# Altium footprint library PcbLib1.PcbLib: 58 footprints (part 3 of 4)
Each footprint in its own frame and in the unit in brackets; x right, y up, seen from the top. Pads: shape width x height; smd on the part's side, far side on the other; paste and mask are expansions set on the pad; w line width, h text height; cw(c..) or ccw(c..) is an arc to the next point about the centre after c.
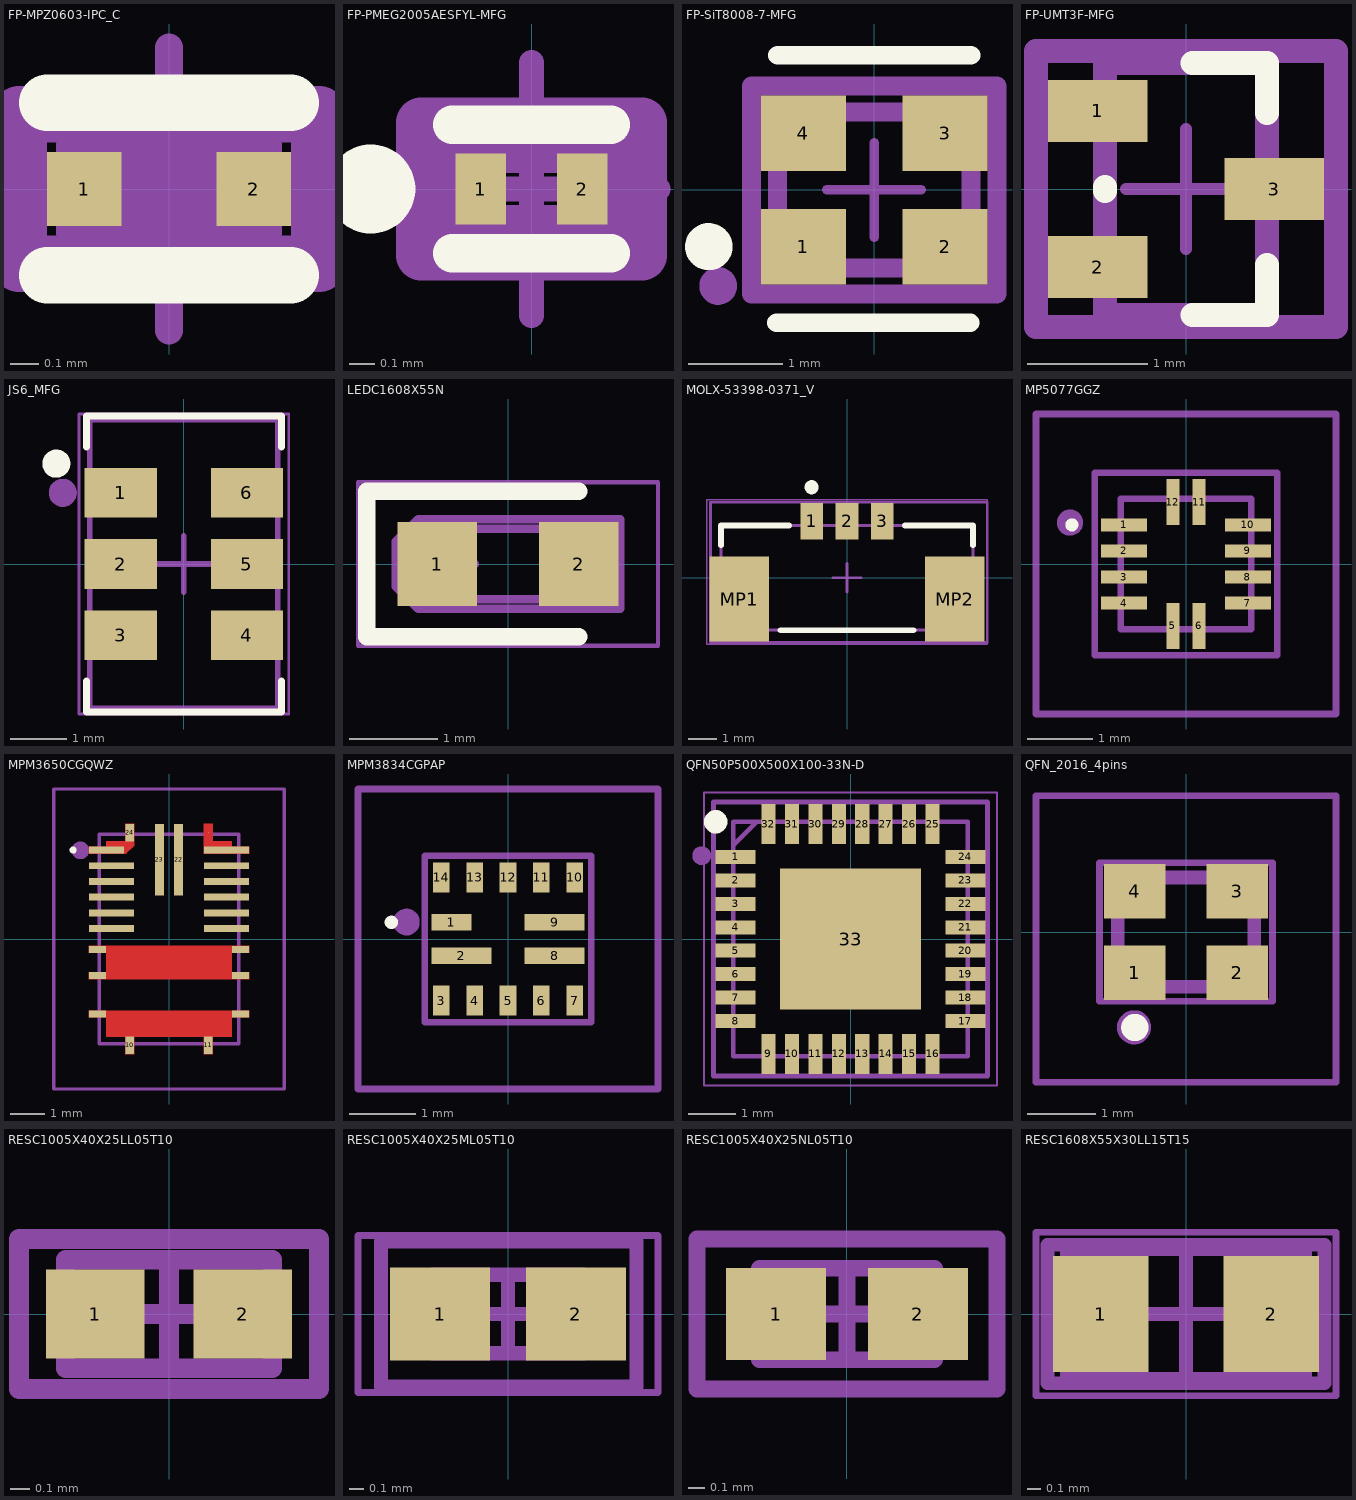
[diagram p2: the footprints below, top view; thin cyan lines are the x and y axes]

## FP-MPZ0603-IPC_C [mm]
pads (2):
  rect 0.263x0.263 smd paste+0 mask+0: 1(-0.3,0) 2(0.3,0)
Top Overlay:
  lines w0.2: -0.431,-0.305 0.431,-0.305 ; -0.431,0.305 0.431,0.305
Top 3D Body:
  lines w0.2: -0.3,-0.15 0.3,-0.15 0.3,0.15 -0.3,0.15 -0.3,-0.15
Top Courtyard:
  lines w0.2: -0.531,-0.265 0.531,-0.265 0.531,0.265 -0.531,0.265 -0.531,-0.265
Top Assembly:
  lines w0.1: -0.531,-0.265 0.531,-0.265 0.531,0.254 -0.531,0.254 -0.531,-0.265
  text ".Designator" at -0.508,-0.25 h0.7
Top Component Center:
  lines w0.1: -0.5,0 0.5,0 ; 0,-0.5 0,0.5
3D body "FBead_TDK_MPZ0603S220HT000_eec.STEP": height 0.33, standoff 0, extent -0.3,-0.15 0.3,0.15

## FP-PMEG2005AESFYL-MFG [mm]
pads (2):
  rect 0.2x0.28 smd paste-1000 mask-1000: 1(-0.2,0) 2(0.2,0)
Top Overlay:
  circle w0.25: c-0.635,0 r0.051
  lines w0.152: -0.312,-0.254 0.312,-0.254 ; -0.312,0.254 0.312,0.254
Top Paste:
  circle w0.128: c-0.208,0 r0.064
  circle w0.128: c0.208,0 r0.064
Top Solder:
  rectangle: -0.336,-0.14 -0.08,0.14
  rectangle: 0.08,-0.14 0.336,0.14
Top 3D Body:
  lines w0.2: -0.312,-0.162 0.312,-0.162 0.312,0.162 -0.312,0.162 -0.312,-0.162
Top Courtyard:
  lines w0.2: -0.436,-0.262 0.436,-0.262 0.436,0.262 -0.436,0.262 -0.436,-0.262
Top Assembly:
  lines w0.1: -0.3,-0.254 -0.3,0.254 ; -0.254,-0.254 -0.254,0.254 ; -0.381,-0.262 0.436,-0.262 0.436,0.262 -0.381,0.262 -0.381,-0.262
  text ".Designator" at -0.127,-0.25 h0.7
Top Component Center:
  lines w0.1: -0.5,0 0.5,0 ; 0,-0.5 0,0.5
3D body "Diode_Nexperia_PMEG2005AESFYL_eec.STEP": height 0.35, standoff 0, extent -0.3,-0.15 0.3,0.15

## FP-SiT8008-7-MFG [mm]
pads (4):
  rect 0.9x0.8 smd paste+0 mask+0: 1(-0.75,-0.6) 2(0.75,-0.6) 3(0.75,0.6) 4(-0.75,0.6)
Top Overlay:
  circle w0.25: c-1.75,-0.6 r0.125
  lines w0.2: -1.033,-1.405 1.017,-1.405 ; -1.025,1.425 1.025,1.425
Top 3D Body:
  lines w0.2: -1.025,-0.825 -1.025,0.825 1.025,0.825 1.025,-0.825 -1.025,-0.825
Top Courtyard:
  lines w0.2: -1.3,-1.1 -1.3,1.1 1.3,1.1 1.3,-1.1 -1.3,-1.1
Top Assembly:
  circle w0.2: c-1.651,-1.016 r0.1
  lines w0.2: -1.3,-1.1 -1.3,1.1 1.3,1.1 1.3,-1.1 -1.3,-1.1
  text ".Designator" at -1.016,-0.48 h1.5
Top Component Center:
  lines w0.1: -0.5,0 0.5,0 ; 0,-0.5 0,0.5
3D body "Crys_SiTime_SIT8008BI-73-18S-25_000000_eec.STEP": height 0.85, standoff 0, extent -1,-0.8 1,0.8

## FP-UMT3F-MFG [mm]
pads (3):
  rect 0.83x0.52 smd paste+0 mask+0: 1(-0.735,0.65) 2(-0.735,-0.65) 3(0.735,0)
Top Overlay:
  lines w0.2: -0.675,-0.015 -0.675,0.015 ; 0.055,-1.05 0.675,-1.05 0.675,-0.635 ; 0.055,1.05 0.675,1.05 0.675,0.635
Top 3D Body:
  lines w0.2: -0.675,-1.05 -0.675,1.05 0.675,1.05 0.675,-1.05 -0.675,-1.05
Top Courtyard:
  lines w0.2: -1.25,-1.15 -1.25,1.15 1.25,1.15 1.25,-1.15 -1.25,-1.15
Top Assembly:
  lines w0.1: -1.25,-1.15 -1.25,1.15 1.25,1.15 1.25,-1.15 -1.25,-1.15
  text ".Designator" at -1.016,-0.32 h1
Top Component Center:
  lines w0.1: -0.5,0 0.5,0 ; 0,-0.5 0,0.5
3D body "Trans_Rohm_RU1J002YNTCL_eec.STEP": height 0.25, standoff 0, extent -1.25,-1.15 1.25,1.15

## JS6_MFG [mm] "Recommended Land Pattern"
height 1.2
pads (6):
  rect 1.29x0.89 smd paste+0 mask+0: 1(-1.125,1.27) 2(-1.125,0) 3(-1.125,-1.27) 4(1.125,-1.27) 5(1.125,0) 6(1.125,1.27)
Top Overlay:
  circle w0.25: c-2.275,1.79 r0.125
  lines w0.127: -1.739,-2.09 -1.739,-2.639 1.739,-2.639 1.739,-2.09 ; -1.739,2.09 -1.739,2.639 1.739,2.639 1.739,2.09
Top Courtyard:
  lines w0.05: -1.87,-2.675 1.87,-2.675 1.87,2.675 -1.87,2.675 -1.87,-2.675
Top Assembly:
  circle w0.3: c-2.159,1.27 r0.1
  lines w0.1: -1.675,-2.575 1.675,-2.575 1.675,2.575 -1.675,2.575 -1.675,-2.575
  text "1" at -0.889,1.143 h1
  text ".Designator" at -0.762,-0.32 h1
Top Component Center:
  lines w0.1: -0.5,0 0.5,0 ; 0,-0.5 0,0.5
3D body "LCCS127P320X500X120_HS-7_JS6.STEP": height 1.2, standoff 0, extent -1.6,-2.5 1.6,2.5

## LEDC1608X55N [mm]
pads (2):
  rect 0.9x0.95 smd: 1(-0.8,0) 2(0.8,0)
Top Overlay:
  lines w0.2: 0.8,-0.825 -1.6,-0.825 -1.6,0.825 0.8,0.825
Top Assembly:
  lines w0.1: -1.016,0 -0.889,0 ; -0.889,-0.254 -0.889,0.254 ; -0.508,0 -0.381,0 ; -0.889,0 -0.508,0.254 -0.508,-0.254 -0.889,0 ; -1.27,-0.254 -1.016,-0.508 1.27,-0.508 1.27,0.508 -1.016,0.508 -1.27,0.254 -1.27,-0.254
  text ".Designator" at -0.254,-0.32 h1
Mechanical 13:
  lines w0.1: -0.8,0.133 -0.533,0.4 ; -0.8,-0.4 0.8,-0.4 0.8,0.4 -0.8,0.4 -0.8,-0.4
Mechanical 15:
  lines w0.05: -1.7,-0.925 -1.7,0.925 1.7,0.925 1.7,-0.925 -1.7,-0.925
3D body "LTST-C191KGKT.stp": height 0.55, standoff 0, extent -0.83,-0.4 0.77,0.4

## MOLX-53398-0371_V [mm] "SMD, 3-Leads, Body 8.9x3.7mm, Pitch 1.25mm"
height 4.7
pads (5):
  rect 0.8x1.3 smd: 1(-1.25,2) 2(0,2) 3(1.25,2)
  rect 2.1x3 smd: MP1(-3.8,-0.75) MP2(3.8,-0.75)
Top Overlay:
  circle w0.25: c-1.25,3.2 r0.125
  lines w0.2: -4.45,1.15 -4.45,1.85 -2.05,1.85 ; -2.35,-1.85 2.35,-1.85 ; 2.05,1.85 4.45,1.85 4.45,1.15
Top Assembly:
  circle w0.3: c-1.27,2.286 r0.1
  lines w0.1: -4.826,-2.286 -4.826,2.667 4.953,2.667 4.953,-2.286 -4.826,-2.286
  text ".Designator" at -1.27,-0.386 h2
Mechanical 13:
  lines w0.1: -4.45,-1.85 4.45,-1.85 4.45,1.85 -4.45,1.85 -4.45,-1.85
Mechanical 15:
  lines w0.05: -4.95,-2.35 -4.95,2.75 4.95,2.75 4.95,-2.35 -4.95,-2.35
  lines w0.1: -0.5,0 0.5,0 ; 0,-0.5 0,0.5
3D body "533980371.stp": height 4.7, standoff 0, extent -4.45,-1.85 4.45,2.35

## MP5077GGZ [mm]
pads (12):
  rect 0.7x0.2 smd: 1(-0.95,0.6) 2(-0.95,0.2) 3(-0.95,-0.2) 4(-0.95,-0.6) 7(0.95,-0.6) 8(0.95,-0.2) 9(0.95,0.2) 10(0.95,0.6)
  rect 0.2x0.7 smd: 5(-0.2,-0.95) 6(0.2,-0.95) 11(0.2,0.95) 12(-0.2,0.95)
Top Overlay:
  lines w0.1: -1.8,0.6 cw(c-1.75,0.6) -1.7,0.6 cw(c-1.75,0.6) -1.8,0.6
Top Assembly:
  circle w0.2: c-1.778,0.635 r0.1
  lines w0.1: -1.397,-1.397 1.397,-1.397 1.397,1.397 -1.397,1.397 -1.397,-1.397
  text ".Designator" at -0.635,-0.32 h1
  text "1" at -0.635,0.508 h0.7
Mechanical 13:
  lines w0.1: -1,-1 -1,1 1,1 1,-1 -1,-1
Mechanical 15:
  lines w0.1: -2.3,-2.3 -2.3,2.3 2.3,2.3 2.3,-2.3 -2.3,-2.3
3D body "MP5077GG-Z.stp": height 1.1, standoff 0, extent -1,-1 1,1

## MPM3650CGQWZ [mm]
pads (24):
  rect 1.016x0.2 smd: 1(-1.792,2.55)
  rect 1.3x0.2 smd: 2(-1.65,2.1) 3(-1.65,1.65) 4(-1.65,1.2) 5(-1.65,0.75) 6(-1.65,0.3) 15(1.65,0.3) 16(1.65,0.75) 17(1.65,1.2) 18(1.65,1.65) 19(1.65,2.1) 20(1.65,2.55)
  rect 0.5x0.2 smd: 7(-2.05,-0.3) 8(-2.05,-1.05) 9(-2.05,-2.15) 12(2.05,-2.15) 13(2.05,-1.05) 14(2.05,-0.3)
  rect 0.25x0.5 smd: 10(-1.125,-3.05) 11(1.125,-3.05) 24(-1.125,3.05)
  round 0.025 smd: 21(1.125,3.05)
  rect 0.25x2.05 smd: 22(0.275,2.275) 23(-0.275,2.275)
Top Layer:
  region: 1.25,3.3 1,3.3 1,2.45 2.3,2.45 2.3,2.65 1.896,2.65 1.8,2.65 1.8,2.8 1.25,2.8
  region: -2.3,-0.2 -2.3,-0.4 -1.8,-0.4 -1.8,-0.95 -2.3,-0.95 -2.3,-1.15 2.3,-1.15 2.3,-0.95 1.8,-0.95 1.8,-0.4 2.3,-0.4 2.3,-0.2
  region: -2.3,-2.05 -2.3,-2.25 -1.8,-2.25 -1.8,-2.8 -1.25,-2.8 -1.25,-3.3 -1,-3.3 -1,-2.8 1,-2.8 1,-3.3 1.25,-3.3 1.25,-2.8 1.8,-2.8 1.8,-2.25 2.3,-2.25 2.3,-2.05
  region: -1,3.3 -1.25,3.3 -1.25,2.8 -1.8,2.8 -1.8,2.65 -2.3,2.65 -2.3,2.45 -1.223,2.45 -1.223,2.452 -1,2.675 -1,2.875
  region: 1,2.8 1.25,2.8 1.25,3.3 1,3.3
Top Overlay:
  lines w0.1: -2.8,2.55 ccw(c-2.75,2.55) -2.7,2.55 ccw(c-2.75,2.55) -2.8,2.55
Top Assembly:
  circle w0.3: c-2.54,2.54 r0.1
  lines w0.1: -2,-3 -2,3 2,3 2,-3 -2,-3
  text ".Designator" at -1.651,-0.193 h1
  text "1" at -1.27,2.413 h0.7
Mechanical 15:
  lines w0.1: -3.3,-4.3 3.3,-4.3 3.3,4.3 -3.3,4.3 -3.3,-4.3
3D body "MPM3860GQW-Z.stp": height 1.75, standoff 0, extent -2,-3 2,3

## MPM3834CGPAP [mm]
pads (14):
  rect 0.6x0.25 smd: 1(-0.85,0.25)
  rect 0.9x0.25 smd: 2(-0.7,-0.25) 8(0.7,-0.25) 9(0.7,0.25)
  rect 0.25x0.45 smd: 3(-1,-0.925) 4(-0.5,-0.925) 5(0,-0.925) 6(0.5,-0.925) 7(1,-0.925) 10(1,0.925) 11(0.5,0.925) 12(0,0.925) 13(-0.5,0.925) 14(-1,0.925)
Top Overlay:
  lines w0.1: -1.8,0.25 cw(c-1.75,0.25) -1.7,0.25 cw(c-1.75,0.25) -1.8,0.25
Top Assembly:
  circle w0.2: c-1.524,0.254 r0.1
  lines w0.1: -1.25,-1.25 -1.25,1.25 1.25,1.25 1.25,-1.25 -1.25,-1.25
  text ".Designator" at -0.508,-0.32 h1
  text "1" at -0.508,0.127 h0.7
Mechanical 15:
  lines w0.1: -2.25,-2.25 -2.25,2.25 2.25,2.25 2.25,-2.25 -2.25,-2.25
3D body "MPM3834CGPA-P.stp": height 1.21, standoff 0, extent -1.25,-1.25 1.25,1.25

## QFN50P500X500X100-33N-D [mm]
pads (33):
  rect 0.85x0.3 smd: 1(-2.45,1.75) 2(-2.45,1.25) 3(-2.45,0.75) 4(-2.45,0.25) 5(-2.45,-0.25) 6(-2.45,-0.75) 7(-2.45,-1.25) 8(-2.45,-1.75) 17(2.45,-1.75) 18(2.45,-1.25) 19(2.45,-0.75) 20(2.45,-0.25) 21(2.45,0.25) 22(2.45,0.75) 23(2.45,1.25) 24(2.45,1.75)
  rect 0.3x0.85 smd: 9(-1.75,-2.45) 10(-1.25,-2.45) 11(-0.75,-2.45) 12(-0.25,-2.45) 13(0.25,-2.45) 14(0.75,-2.45) 15(1.25,-2.45) 16(1.75,-2.45) 25(1.75,2.45) 26(1.25,2.45) 27(0.75,2.45) 28(0.25,2.45) 29(-0.25,2.45) 30(-0.75,2.45) 31(-1.25,2.45) 32(-1.75,2.45)
  rect 3x3 smd: 33(0,0)
Top Overlay:
  circle w0.25: c-2.875,2.5 r0.125
Top Assembly:
  circle w0.2: c-3.175,1.778 r0.1
  lines w0.1: -2.921,-2.921 -2.921,2.921 2.921,2.921 2.921,-2.921 -2.921,-2.921
  text ".Designator" at -1.397,-0.513 h2
  text "1" at -2.286,1.651 h0.7
Mechanical 13:
  lines w0.1: -2.5,2 -2,2.5 ; -2.5,-2.5 -2.5,2.5 2.5,2.5 2.5,-2.5 -2.5,-2.5
Mechanical 15:
  lines w0.05: -3.125,-3.125 -3.125,3.125 3.125,3.125 3.125,-3.125 -3.125,-3.125
3D body "TLK106RHBR.stp": height 1, standoff 0, extent -2.5,-2.5 2.5,2.5

## QFN_2016_4pins [mm]
pads (4):
  rect 0.9x0.8 smd: 1(-0.75,-0.6) 2(0.75,-0.6) 3(0.75,0.6) 4(-0.75,0.6)
Top Overlay:
  lines w0.2: -0.85,-1.4 cw(c-0.75,-1.4) -0.65,-1.4 cw(c-0.75,-1.4) -0.85,-1.4
Top Assembly:
  circle w0.3: c-0.762,-1.397 r0.1
  lines w0.1: -1.27,-1.016 -1.27,1.016 1.27,1.016 1.27,-1.016 -1.27,-1.016
  text ".Designator" at -1.143,-0.32 h1
Mechanical 13:
  lines w0.2: -1,-0.8 -1,0.8 1,0.8 1,-0.8 -1,-0.8
Mechanical 15:
  lines w0.1: -2.2,-2.204 -2.2,2 2.2,2 2.2,-2.204 -2.2,-2.204
3D body "SiT8008BI-73-XXS-25.000000.stp": height 0.8, standoff 0, extent -1,-0.81 1,0.79

## RESC1005X40X25LL05T10 [mm] "Chip Resistor, 2-Leads, Body 1.00x0.50mm, IPC High Density"
height 0.4
pads (2):
  rect 0.5x0.45 smd: 1(-0.375,0) 2(0.375,0)
Top 3D Body:
  lines w0.1: -0.525,-0.275 -0.525,0.275 0.525,0.275 0.525,-0.275 -0.525,-0.275
Top Courtyard:
  lines w0.05: -0.75,-0.4 -0.75,0.4 0.75,0.4 0.75,-0.4 -0.75,-0.4
  lines w0.1: -0.275,0 0.275,0 ; 0,-0.275 0,0.275
Top Assembly:
  lines w0.1: -0.762,-0.381 0.762,-0.381 0.762,0.381 -0.762,0.381 -0.762,-0.381
  text ".Designator" at -0.635,-0.254 h0.7
3D body: height 0.4, standoff 0, extent -0.275,-0.275 0.275,0.275
3D body: height 0.4, standoff 0, extent -0.525,-0.275 -0.275,0.275
3D body: height 0.4, standoff 0, extent 0.275,-0.275 0.525,0.275

## RESC1005X40X25ML05T10 [mm] "Chip Resistor, 2-Leads, Body 1.00x0.50mm, IPC Low Density"
height 0.4
pads (2):
  rect 0.7x0.65 smd: 1(-0.475,0) 2(0.475,0)
Top 3D Body:
  lines w0.1: -0.525,-0.275 0.525,-0.275 0.525,0.275 -0.525,0.275 -0.525,-0.275
Top Courtyard:
  lines w0.05: -1.05,-0.55 1.05,-0.55 1.05,0.55 -1.05,0.55 -1.05,-0.55
  lines w0.1: -0.275,0 0.275,0 ; 0,-0.275 0,0.275
Top Assembly:
  lines w0.1: -0.889,-0.508 0.9,-0.508 0.9,0.508 -0.889,0.508 -0.889,-0.508
  text ".Designator" at -0.762,-0.254 h1
3D body: height 0.4, standoff 0, extent 0.275,-0.275 0.525,0.275
3D body: height 0.4, standoff 0, extent -0.525,-0.275 -0.275,0.275
3D body: height 0.4, standoff 0, extent -0.275,-0.275 0.275,0.275

## RESC1005X40X25NL05T10 [mm] "Chip Resistor, 2-Leads, Body 1.00x0.50mm, IPC Medium Density"
height 0.4
pads (2):
  rect 0.6x0.55 smd: 1(-0.425,0) 2(0.425,0)
Top 3D Body:
  lines w0.1: -0.525,-0.275 -0.525,0.275 0.525,0.275 0.525,-0.275 -0.525,-0.275
Top Courtyard:
  lines w0.05: -0.9,-0.45 -0.9,0.45 0.9,0.45 0.9,-0.45 -0.9,-0.45
  lines w0.1: -0.275,0 0.275,0 ; 0,-0.275 0,0.275
Top Assembly:
  lines w0.1: -0.9,-0.45 -0.9,0.45 0.9,0.45 0.9,-0.45 -0.9,-0.45
  text ".Designator" at -0.762,-0.254 h1
3D body: height 0.4, standoff 0, extent -0.275,-0.275 0.275,0.275
3D body: height 0.4, standoff 0, extent -0.525,-0.275 -0.275,0.275
3D body: height 0.4, standoff 0, extent 0.275,-0.275 0.525,0.275

## RESC1608X55X30LL15T15 [mm] "Chip Resistor, 2-Leads, Body 1.60x0.80mm, IPC High Density"
height 0.55
pads (2):
  rect 0.7x0.85 smd: 1(-0.625,0) 2(0.625,0)
Top Assembly:
  lines w0.1: -1.016,-0.508 1.016,-0.508 1.016,0.508 -1.016,0.508 -1.016,-0.508
  text ".Designator" at -0.889,-0.254 h1
Mechanical 13:
  lines w0.1: -0.875,-0.475 0.875,-0.475 0.875,0.475 -0.875,0.475 -0.875,-0.475
Mechanical 15:
  lines w0.05: -1.1,-0.6 1.1,-0.6 1.1,0.6 -1.1,0.6 -1.1,-0.6
  lines w0.1: -0.475,0 0.475,0 ; 0,-0.475 0,0.475
3D body: height 0.55, standoff 0, extent 0.575,-0.475 0.875,0.475
3D body: height 0.55, standoff 0, extent -0.875,-0.475 -0.575,0.475
3D body: height 0.55, standoff 0, extent -0.575,-0.475 0.575,0.475